# Altium schematic symbol library NCP6354BMTAATBG.SchLib: 1 symbol
Pins are listed as number, name and electrical type; pins without a type are passive.

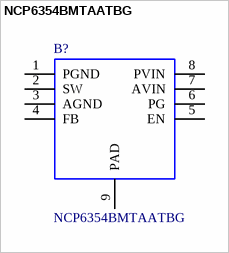
[diagram p0: symbol NCP6354BMTAATBG]

## NCP6354BMTAATBG
designator B?
ON Semiconductor, NCP6354BMTAATBG Step-Down Switching Regulator 3.3A Adjustable, 0.6  5.5 V, 8-Pin WDFN; Geometry.Height: 0.8mm; Mouser Part Number: *; Manufacturer_Name: ON Semiconductor; Manufacturer_Part_Number: NCP6354BMTAATBG; Datasheet Link: *
footprint SON50P200X200X80-9N-D
pins: 1 PGND, 2 SW (power), 3 AGND, 4 FB, 5 EN, 6 PG, 7 AVIN (power), 8 PVIN (power), 9 PAD